# Altium footprint library Resistors_footprint.PcbLib: 3 footprints
Each footprint in its own frame and in the unit in brackets; x right, y up, seen from the top. Pads: shape width x height; smd on the part's side, far side on the other; paste and mask are expansions set on the pad; w line width, h text height; cw(c..) or ccw(c..) is an arc to the next point about the centre after c.
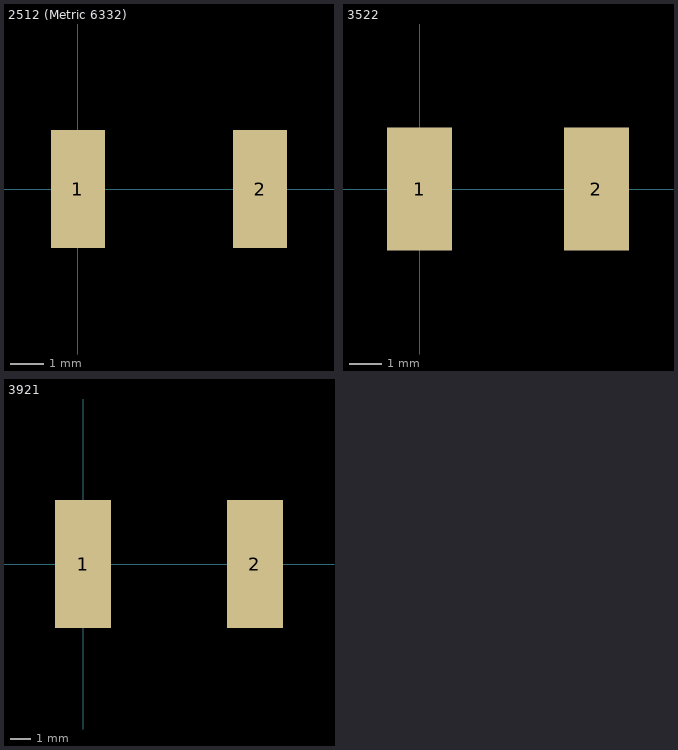
[diagram p0: the footprints below, top view; thin cyan lines are the x and y axes]

## 2512 (Metric 6332) [mm] "Standard 2512 (Metric 6332) footprint"
pads (2):
  rect 1.6x3.5 smd: 1(0,0) 2(5.4,0)

## 3522 [mm] "3522"
pads (2):
  rect 2x3.8 smd: 1(0,0) 2(5.44,0)

## 3921 [mm] "Vishay"
pads (2):
  rect 2.7x6.2 smd: 1(0,0) 2(8.3,0)